# Altium schematic symbol library DSP_Texas.SchLib: 1 symbol
Pins are listed as number, name and electrical type; pins without a type are passive.

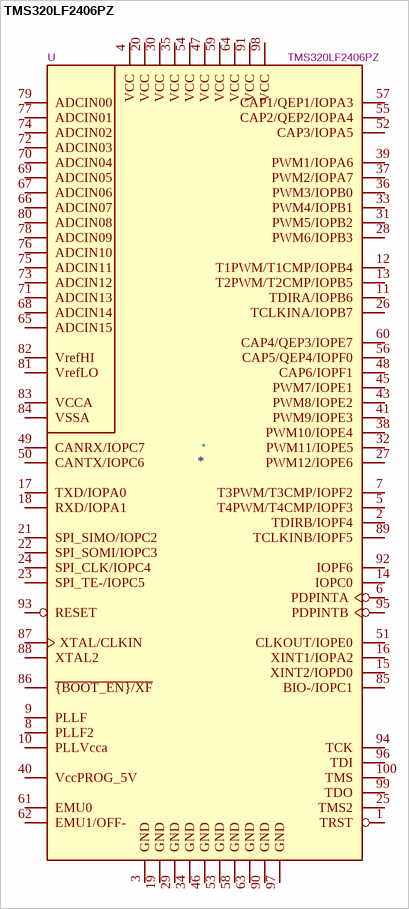
[diagram p0: symbol TMS320LF2406PZ]

## TMS320LF2406PZ
designator *  value TMS320LF2406PZ  Reference: U
16bit DSP Controller 32Kx16B Flash 2.5Kx16B RAM, Obsolete NRND, PQFP-100; ki_keywords: 16BIT DSP TMS320 Obsolete; ki_fp_filters: PQFP-100*; Datasheet: http://www.ti.com/lit/ds/symlink/tms320lf2406.pdf; Description_: 16bit DSP Controller 32Kx16B Flash 2.5Kx16B RAM, Obsolete NRND, PQFP-100
pins: 1 TRST, 2 TDIRB/IOPF4, 3 GND, 4 VCC, 5 T4PWM/T4CMP/IOPF3, 6 PDPINTA, 7 T3PWM/T3CMP/IOPF2, 8 PLLF2, 9 PLLF, 10 PLLVcca, 11 TDIRA/IOPB6, 12 T1PWM/T1CMP/IOPB4, 13 T2PWM/T2CMP/IOPB5, 14 IOPC0, 15 XINT2/IOPD0, 16 XINT1/IOPA2, 17 TXD/IOPA0, 18 RXD/IOPA1, 19 GND, 20 VCC, 21 SPI_SIMO/IOPC2, 22 SPI_SOMI/IOPC3, 23 SPI_TE-/IOPC5, 24 SPI_CLK/IOPC4, 25 TMS2, 26 TCLKINA/IOPB7, 27 PWM12/IOPE6, 28 PWM6/IOPB3, 29 GND, 30 VCC, 31 PWM5/IOPB2, 32 PWM11/IOPE5, 33 PWM4/IOPB1, 34 GND, 35 VCC, 36 PWM3/IOPB0, 37 PWM2/IOPA7, 38 PWM10/IOPE4, 39 PWM1/IOPA6, 40 VccPROG_5V, 41 PWM9/IOPE3, 43 PWM8/IOPE2, 45 PWM7/IOPE1, 46 GND, 47 VCC, 48 CAP6/IOPF1, 49 CANRX/IOPC7, 50 CANTX/IOPC6, 51 CLKOUT/IOPE0, 52 CAP3/IOPA5, 53 GND, 54 VCC, 55 CAP2/QEP2/IOPA4, 56 CAP5/QEP4/IOPF0, 57 CAP1/QEP1/IOPA3, 58 GND, 59 VCC, 60 CAP4/QEP3/IOPE7, 61 EMU0, 62 EMU1/OFF-, 63 GND, 64 VCC, 65 ADCIN15, 66 ADCIN07, 67 ADCIN06, 68 ADCIN14, 69 ADCIN05, 70 ADCIN04, 71 ADCIN13, 72 ADCIN03, 73 ADCIN12, 74 ADCIN02, 75 ADCIN11, 76 ADCIN10, 77 ADCIN01, 78 ADCIN09, 79 ADCIN00, 80 ADCIN08, 81 VrefLO, 82 VrefHI, 83 VCCA, 84 VSSA, 85 BIO-/IOPC1, 86 ~{{BOOT_EN}/XF}, 87 XTAL/CLKIN, 88 XTAL2, 89 TCLKINB/IOPF5, 90 GND, 91 VCC, 92 IOPF6, 93 RESET, 94 TCK, 95 PDPINTB, 96 TDI, 97 GND, 98 VCC, 99 TDO, 100 TMS